# Altium footprint library TPS54622RHLR.PcbLib: 2 footprints
Each footprint in its own frame and in the unit in brackets; x right, y up, seen from the top. Pads: shape width x height; smd on the part's side, far side on the other; paste and mask are expansions set on the pad; w line width, h text height; cw(c..) or ccw(c..) is an arc to the next point about the centre after c.
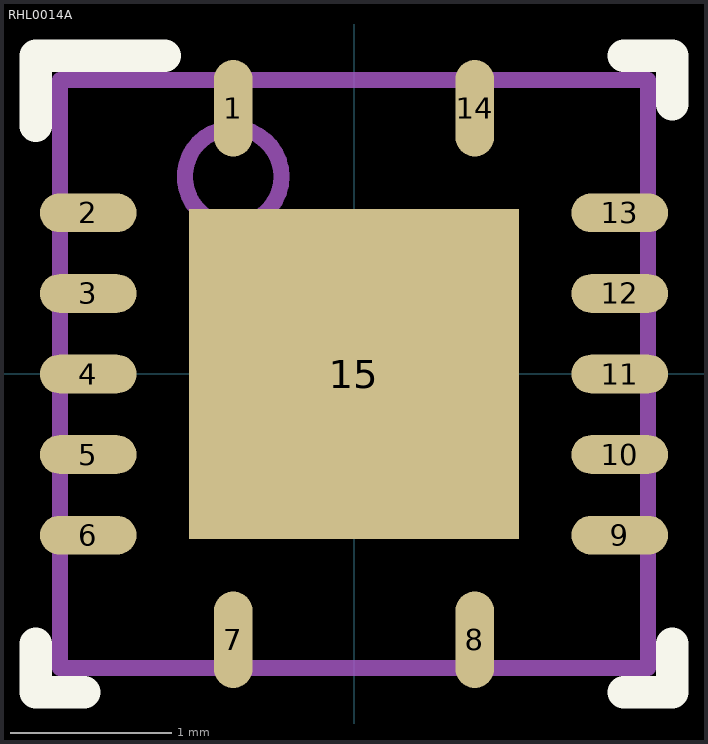
[diagram p0: the footprints below, top view; thin cyan lines are the x and y axes]

## PCBComponent_1 [mm]

## RHL0014A [mm]
pads (15):
  oval 0.24x0.6 smd: 1(-0.75,1.65) 7(-0.75,-1.65) 8(0.75,-1.65) 14(0.75,1.65)
  oval 0.6x0.24 smd: 2(-1.65,1) 3(-1.65,0.5) 4(-1.65,0) 5(-1.65,-0.5) 6(-1.65,-1) 9(1.65,-1) 10(1.65,-0.5) 11(1.65,0) 12(1.65,0.5) 13(1.65,1)
  rect 2.05x2.05 smd: 15(0,0)
Top Overlay:
  lines w0.2: -1.975,-1.675 -1.975,-1.975 -1.675,-1.975 ; -1.975,1.54 -1.975,1.975 -1.175,1.975 ; 1.675,-1.975 1.975,-1.975 1.975,-1.675 ; 1.675,1.975 1.975,1.975 1.975,1.675
Top Solder:
  region: 0.775,0.307 0.658,0.283 0.558,0.217 0.492,0.117 0.468,0 0.492,-0.117 0.558,-0.217 0.658,-0.283 0.775,-0.307 0.892,-0.283 0.992,-0.217 1.058,-0.117 1.082,0 1.058,0.117 0.992,0.217 0.892,0.283
  region: 0,1.082 -0.117,1.058 -0.217,0.992 -0.283,0.892 -0.307,0.775 -0.283,0.658 -0.217,0.558 -0.117,0.492 0,0.468 0.117,0.492 0.217,0.558 0.283,0.658 0.307,0.775 0.283,0.892 0.217,0.992 0.117,1.058
  region: -0.775,0.307 -0.892,0.283 -0.992,0.217 -1.058,0.117 -1.082,0 -1.058,-0.117 -0.992,-0.217 -0.892,-0.283 -0.775,-0.307 -0.658,-0.283 -0.558,-0.217 -0.492,-0.117 -0.468,0 -0.492,0.117 -0.558,0.217 -0.658,0.283
  region: 0,-0.468 -0.117,-0.492 -0.217,-0.558 -0.283,-0.658 -0.307,-0.775 -0.283,-0.892 -0.217,-0.992 -0.117,-1.058 0,-1.082 0.117,-1.058 0.217,-0.992 0.283,-0.892 0.307,-0.775 0.283,-0.658 0.217,-0.558 0.117,-0.492
Bottom Solder:
  region: 0.775,0.307 0.658,0.283 0.558,0.217 0.492,0.117 0.468,0 0.492,-0.117 0.558,-0.217 0.658,-0.283 0.775,-0.307 0.892,-0.283 0.992,-0.217 1.058,-0.117 1.082,0 1.058,0.117 0.992,0.217 0.892,0.283
  region: 0,1.082 -0.117,1.058 -0.217,0.992 -0.283,0.892 -0.307,0.775 -0.283,0.658 -0.217,0.558 -0.117,0.492 0,0.468 0.117,0.492 0.217,0.558 0.283,0.658 0.307,0.775 0.283,0.892 0.217,0.992 0.117,1.058
  region: -0.775,0.307 -0.892,0.283 -0.992,0.217 -1.058,0.117 -1.082,0 -1.058,-0.117 -0.992,-0.217 -0.892,-0.283 -0.775,-0.307 -0.658,-0.283 -0.558,-0.217 -0.492,-0.117 -0.468,0 -0.492,0.117 -0.558,0.217 -0.658,0.283
  region: 0,-0.468 -0.117,-0.492 -0.217,-0.558 -0.283,-0.658 -0.307,-0.775 -0.283,-0.892 -0.217,-0.992 -0.117,-1.058 0,-1.082 0.117,-1.058 0.217,-0.992 0.283,-0.892 0.307,-0.775 0.283,-0.658 0.217,-0.558 0.117,-0.492
Mechanical 1:
  circle w0.1: c-0.75,1.225 r0.3
  lines w0.1: -1.825,-1.825 -1.825,1.825 1.825,1.825 1.825,-1.825 -1.825,-1.825
  text ".Designator" at -1.524,-0.762 h0.79
Mechanical 16:
  circle w0.1: c-0.75,1.225 r0.3
  lines w0.1: -1.825,-1.825 -1.825,1.825 1.825,1.825 1.825,-1.825 -1.825,-1.825
  text ".Designator" at -1.524,-0.762 h0.79